# EAGLE library part HAPTIC_DRIVER_DA7280 (library TEMP)
DA7280 Haptic Driver DA7280 is a linear resonant actuator (LRA) and eccentric rotating mass (ERM) haptic driver offering automatic closed-loop LRA resonant frequency tracking.
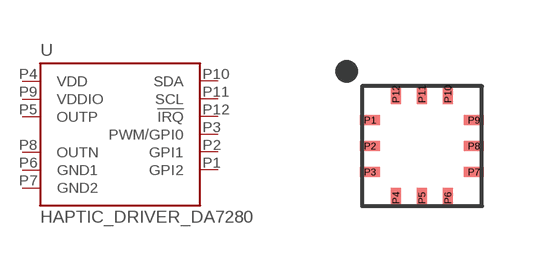
[diagram p0: symbol with the pads of QFN_DA7280; footprint QFN_DA7280]

Designator prefix U

## HAPTIC_DRIVER_DA7280 (PROD_ID: IC-15534)  [QFN_DA7280]
P1  GPI2  in
P2  GPI1  in
P3  PWM/GPI0  in
P4  VDD  pwr
P5  OUTP  out
P6  GND1  pwr
P7  GND2  pwr
P8  OUTN  out
P9  VDDIO  pwr
P10  SDA
P11  SCL
P12  !IRQ!  out

## Footprint QFN_DA7280 (pad centres in mm)
smd 0.5 x 0.25: P1 -1.32,0.68; P2 -1.32,0.03; P3 -1.32,-0.62; P7 1.28,-0.62; P8 1.28,0.03; P9 1.28,0.68
smd 0.25 x 0.5: P4 -0.67,-1.27; P5 -0.02,-1.27; P6 0.63,-1.27; P10 0.63,1.33; P11 -0.02,1.33; P12 -0.67,1.33